# Altium footprint library TXH 060-148.PcbLib: 2 footprints
Each footprint in its own frame and in the unit in brackets; x right, y up, seen from the top. Pads: shape width x height; smd on the part's side, far side on the other; paste and mask are expansions set on the pad; w line width, h text height; cw(c..) or ccw(c..) is an arc to the next point about the centre after c.
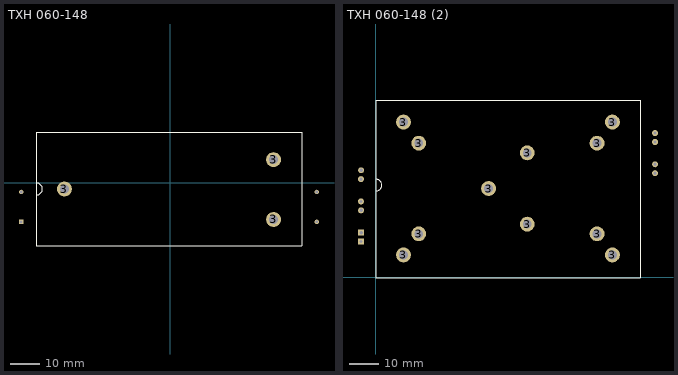
[diagram p0: the footprints below, top view; thin cyan lines are the x and y axes]

## TXH 060-148 [mm] "AC/DC Power Supply"
pads (7):
  rect 1.5x1.5 hole 1: 1(-49.95,-13.117)
  round 1.5 hole 0.9: 2(-49.95,-3.117) 4(48.95,-3.117) 5(48.95,-13.117)
  round 5 hole 3: 3(-35.5,-2.117) 3(34.5,-12.317) 3(34.5,7.683)
Top Overlay:
  lines w0.2: -44.85,-4.117 ccw(c-44.85,-2.117) -44.85,-0.117 ; -44.95,-21.117 -44.95,16.883 43.95,16.883 43.95,-21.117 -44.95,-21.117
3D body "txh060_3d_drawing.stp": height 59.69, standoff -0.01, extent -45.036,-21.209 44.164,16.791

## TXH 060-148 (2) [mm] "AC/DC Power Supply"
pads (21):
  rect 2x2 hole 1.1: 1(-5,12) 1(-4.95,15)
  round 2 hole 1.1: 2(-5,25.5) 2(-4.95,22.5) 3(-5,33) 3(-4.95,36) 4(93.95,45.5) 4(93.95,48.5) 5(93.95,35) 5(93.95,38)
  round 5 hole 3: 3(9.3,7.5) 3(9.3,52.2) 3(14.45,14.6) 3(14.45,45.1) 3(37.95,29.85) 3(50.95,17.85) 3(50.95,41.85) 3(74.45,14.6) 3(74.45,45.1) 3(79.6,7.5) 3(79.6,52.2)
Top Overlay:
  lines w0.2: 0,29 ccw(c0,31) 0,33 ; 0.05,-0.117 0.05,59.481 88.95,59.481 88.95,-0.117 0.05,-0.117
3D body "txh060_3d_drawing.stp": height 38, standoff 0, extent 0,0 89.2,59.7